# EAGLE library part CS5080E (library added_parts)
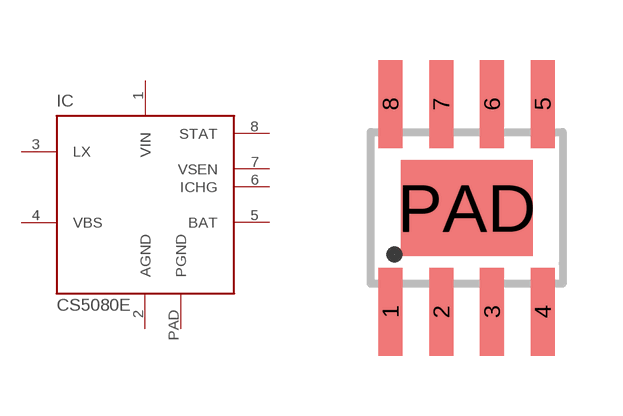
[diagram p15: symbol with the pads of ESOP8L; footprint ESOP8L]

Designator prefix IC

## CS5080E  [ESOP8L]
1  VIN  pwr
2  AGND  pwr
3  LX  pas
4  VBS  pas
5  BAT  pas
6  ICHG  pas
7  VSEN  pas
8  STAT  out
PAD  PGND  pas

## Footprint ESOP8L (pad centres in mm)
smd 0.6 x 2.2: 1 -1.905,-2.6; 2 -0.635,-2.6; 3 0.635,-2.6; 4 1.905,-2.6; 5 1.905,2.6; 6 0.635,2.6; 7 -0.635,2.6; 8 -1.905,2.6
smd 3.3 x 2.4: PAD 0,0